# EAGLE library part LTC3544B (library PowerProducts)
LT-Spice library generated with : ltspice.ulp from: D:/Program Files (x86)/LTC/LTspiceIV/lib/sym/PowerProducts/LTC3545-1*.asy at 07.10.2012 18:17:32
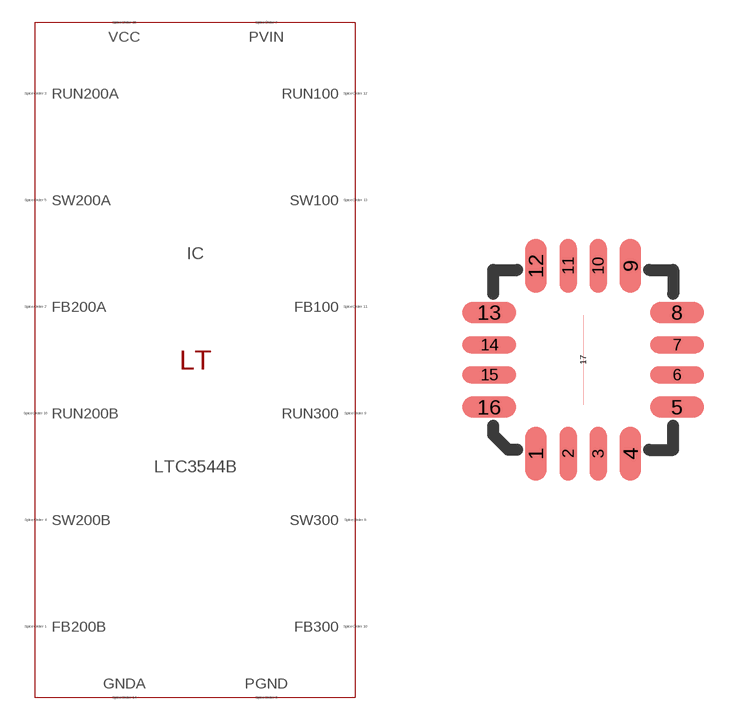
[diagram p238: symbol with the pads of QFN16(UD); footprint QFN16(UD)]

Designator prefix IC

## LTC3544B (SPICEMODEL: LTC3544B.sub; SPICEPREFIX: X; VALUE2: LTC3544B)  [QFN16(UD)]
1  FB200B  pas
2  FB200A  pas
3  RUN200A  pas
4  SW200B  pas
5  SW200A  pas
6  PGND  pas
7  PVIN  pas
8  SW300  pas
9  RUN300  pas
10  FB300  pas
11  FB100  pas
12  RUN100  pas
13  SW100  pas
14  GNDA  pas
15  VCC  pas
16  RUN200B  pas
17  GNDA  pas

## Footprint QFN16(UD) (pad centres in mm)
Package generated from: QFN16(UD).asc (!PADS-POWERPCB-V9.3-BASIC! DESIGN DATABASE ASCII FILE 1.0) with :import-pads-powerpcb-v5.ulp Version 1.0.1 at 04.10.2012 14:11:23
smd 0.54 x 1.35: 1 -1.185,-2.348; 4 1.185,-2.348; 9 1.185,2.348; 12 -1.185,2.348
smd 0.42 x 1.35: 2 -0.375,-2.348; 3 0.375,-2.348; 10 0.375,2.348; 11 -0.375,2.348
smd 1.35 x 0.54: 5 2.348,-1.185; 8 2.348,1.185; 13 -2.348,1.185; 16 -2.348,-1.185
smd 1.35 x 0.42: 6 2.348,-0.375; 7 2.348,0.375; 14 -2.348,0.375; 15 -2.348,-0.375
smd 0 x 2.25: 17 0,0